# Altium footprint library PcbLib1.PcbLib: 1 footprints
Each footprint in its own frame and in the unit in brackets; x right, y up, seen from the top. Pads: shape width x height; smd on the part's side, far side on the other; paste and mask are expansions set on the pad; w line width, h text height; cw(c..) or ccw(c..) is an arc to the next point about the centre after c.
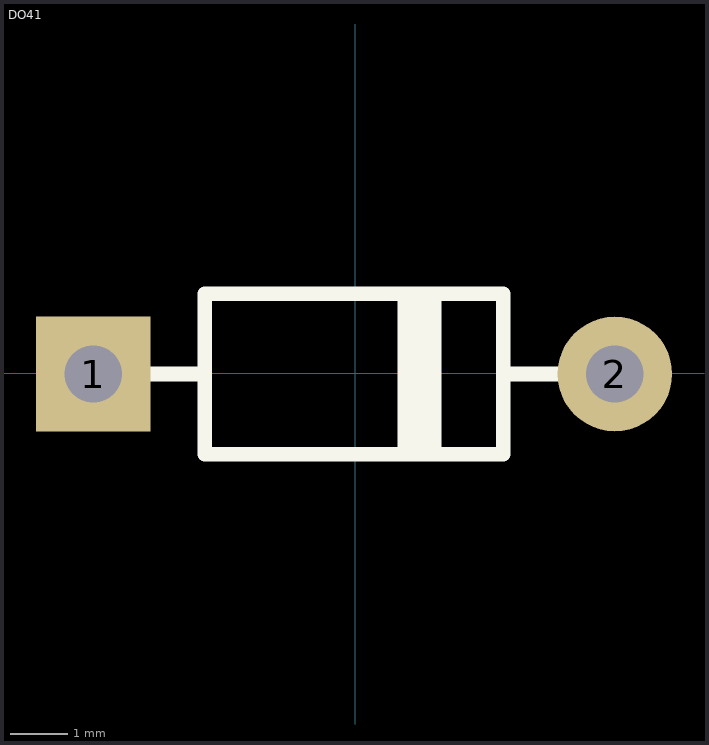
[diagram p0: the footprint, top view; thin cyan lines are the x and y axes]

## DO41 [mm]
pads (2):
  rect 2x2 hole 1: 1(-4.575,-0.013)
  round 2 hole 1: 2(4.525,-0.013)
Top Overlay:
  rectangle: 0.737,-1.41 1.499,1.384
  lines w0.254: -3.581,-0.013 -2.625,-0.013 ; 2.575,-0.013 3.531,-0.013 ; -2.625,-1.41 2.575,-1.41 2.575,1.384 -2.625,1.384 -2.625,-1.41
3D body "DO-41.STEP": height 2.65, standoff -3.45, extent -4.95,-1.301 4.95,1.301